# EAGLE library part IP2312 (library edrtech_lib)
ESOP-8L DC-DC Converters RoHS Source: Datasheet <http://www.injoinic.com/wwwroot/uploads/files/20230913/623558e526750db62e25e32800f94a6b.pdf>
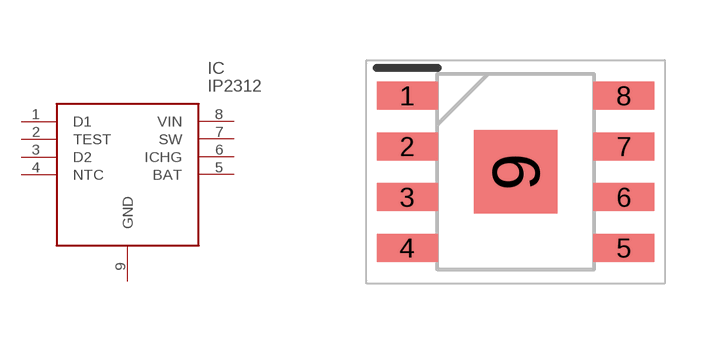
[diagram p28: symbol with the pads of SOIC127P600X165-9N; footprint SOIC127P600X165-9N]

Designator prefix IC

## IP2312 (DESCRIPTION: ESOP-8L DC-DC Converters RoHS; HEIGHT: 1.65mm; MANUFACTURER_NAME: INJOINIC; MANUFACTURER_PART_NUMBER: IP2312)  [SOIC127P600X165-9N]
1  D1
2  TEST
3  D2
4  NTC
5  BAT
6  ICHG
7  SW
8  VIN
9  GND

## Footprint SOIC127P600X165-9N (pad centres in mm)
ESOP-8
smd 1.525 x 0.7: 1 -2.712,1.905; 2 -2.712,0.635; 3 -2.712,-0.635; 4 -2.712,-1.905; 5 2.712,-1.905; 6 2.712,-0.635; 7 2.712,0.635; 8 2.712,1.905
smd 2.09 x 2.09: 9 0,0